# Altium schematic symbol library UCC21540.Schlib: 1 symbol
Pins are listed as number, name and electrical type; pins without a type are passive.

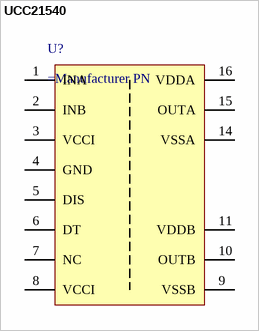
[diagram p0: symbol UCC21540]

## UCC21540
designator U?
Isolated Gate Driver
pins: 1 INA, 2 INB, 3 VCCI (power), 4 GND (power), 5 DIS, 6 DT, 7 NC, 8 VCCI (power), 9 VSSB (power), 10 OUTB (power), 11 VDDB (power), 14 VSSA (power), 15 OUTA (power), 16 VDDA (power)